# EAGLE library part MAX603 (library Gekkio-maxim)
5V or Adjustable, Low-Dropout, Low I Q, 500mA Linear Regulator
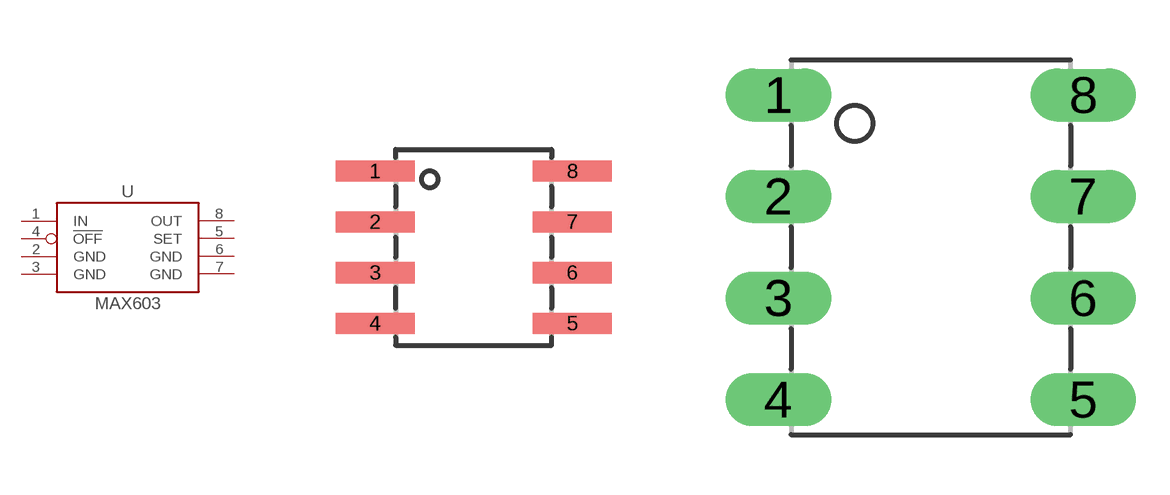
[diagram p1: symbol with the pads of SOIC(N)8; footprints SOIC(N)8, PDIP(N)8]

Designator prefix U

## MAX603CSA  [SOIC(N)8]
1  IN  pwr
2  GND  pwr
3  GND  pwr
4  !OFF  in
5  SET  pas
6  GND  pwr
7  GND  pwr
8  OUT  pwr

## MAX603ESA  [SOIC(N)8]
Pads as for SOIC(N)8

## MAX603CPA  [PDIP(N)8]
Pads as for SOIC(N)8

## MAX603EPA  [PDIP(N)8]
Pads as for SOIC(N)8

## Footprint SOIC(N)8 (pad centres in mm)
SOIC(N)8 Tested Source: Maxim documents 21-0041 (rev G) and 90-0096 (rev F)
smd 1.98 x 0.53: 1 -2.465,1.905; 2 -2.465,0.635; 3 -2.465,-0.635; 4 -2.465,-1.905; 5 2.465,-1.905; 6 2.465,-0.635; 7 2.465,0.635; 8 2.465,1.905

## Footprint PDIP(N)8 (pad centres in mm)
PDIP(N)8 Not tested! Source: Maxim document 21-0043 (rev E)
drill 0.813 long: 1 -3.81,3.81; 2 -3.81,1.27; 3 -3.81,-1.27; 4 -3.81,-3.81; 5 3.81,-3.81; 6 3.81,-1.27; 7 3.81,1.27; 8 3.81,3.81